# Altium schematic symbol library LM317.SchLib: 1 symbol
Pins are listed as number, name and electrical type; pins without a type are passive.

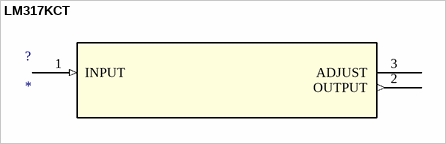
[diagram p0: symbol LM317KCT]

## LM317KCT
designator ?
Imported; Manufacturer: Texas Instruments; GENERIC_PART_NUMBER: LM317; Manufacturer_Part_Number: LM317KCT; INDUSTRY_STD_PKG_TYPE: TO-220; FAMILY_NAME: STANDARD VOLTAGE REGULATOR; PIN_COUNT: 3; PACKAGE_DESIGNATOR: KC; 3D_Library_Name: TI_AllParts_2012-12-25; C: Copyright (C) 2015 Accelerated Designs. All rights reserved; Datasheet URL: http://www.ti.com/lit/gpn/LM317; Vendor: Texas Instruments; Copyright: Copyright (C) 2015 Accelerated Designs. All rights reserved; RefDes: RefDes; Type: DEV; Value: Value
footprint KC3
pins: 1 INPUT (in), 2 OUTPUT (out), 3 ADJUST